# Altium schematic symbol library SCH - DIODES - LED - DUAL COMMON ANODE.SCHLIB: 1 symbol
Pins are listed as number, name and electrical type; pins without a type are passive.

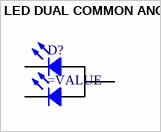
[diagram p0: symbol LED DUAL COMMON ANODE]

## LED DUAL COMMON ANODE
designator D?
BiColor Chip LED Common Anode
pins: 1, 2, 3